# EAGLE library part ATSAMD2*G1*A-U (library maxorig)
ATSAMD2*E - 32bit low-power Cortex M0+ microcontroller (Special part for WLCSP package which is missing PB22 and PB23) This part is for the middle pin count pieces in the SAMD20 and SAMD21 series of low-power microcontrollers. The SAMD21 series adds USB and DMA to the SAMD20 series. Includes Atmel's configurable serial interfaces (SERCOMs) which can be configured to be a UART, I2C, LIN, or SPI. Technical specifications: VCC: 1.62-3.63V Core frequency up to 48MHz Program flash: 32/64/128/256 kb RAM: 4/8/16/32 kb SERCOMS: 6 GPIOs: 36 ADC channels: 14 ADC resolution: 12 bits DACs: 1
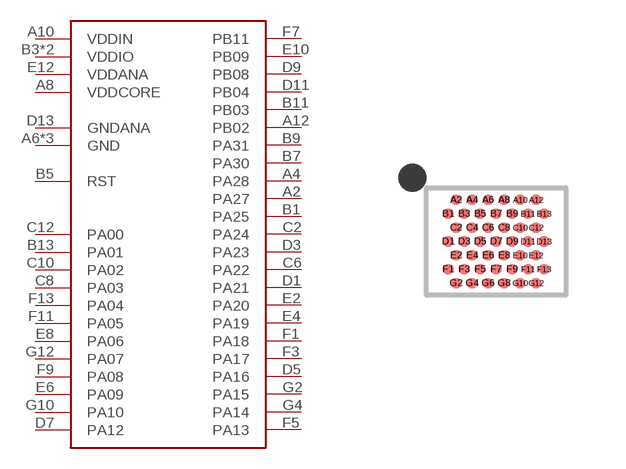
[diagram p29: symbol with the pads of WLCSP-45; footprint WLCSP-45]

Designator prefix -

## ATSAMD2G1A-U  [WLCSP-45]
A2  PA27
A4  PA28
A6  GND
A8  VDDCORE
A10  VDDIN
A12  PB02
B1  PA25
B3  VDDIO
B5  RST
B7  PA30
B9  PA31
B11  PB03
B13  PA01
C2  PA24
C4  GND
C6  PA22
C8  PA03
C10  PA02
C12  PA00
D1  PA21
D3  PA23
D5  PA16
D7  PA12
D9  PB08
D11  PB04
D13  GNDANA
E2  PA20
E4  PA19
E6  PA09
E8  PA06
E10  PB09
E12  VDDANA
F1  PA18
F3  PA17
F5  PA13
F7  PB11
F9  PA08
F11  PA05
F13  PA04
G2  PA15
G4  PA14
G6  GND
G8  VDDIO
G10  PA10
G12  PA07

## Footprint WLCSP-45 (pad centres in mm)
smd 0.26 x 0.26: A2 -1,1.04; A4 -0.6,1.04; A6 -0.2,1.04; A8 0.2,1.04; A10 0.6,1.04; A12 1,1.04; B1 -1.2,0.693; B3 -0.8,0.693; B5 -0.4,0.693; B7 0,0.693; B9 0.4,0.693; B11 0.8,0.693; B13 1.2,0.693; C2 -1,0.346; C4 -0.6,0.346; C6 -0.2,0.346; C8 0.2,0.346; C10 0.6,0.346; C12 1,0.346; D1 -1.2,0; D3 -0.8,0; D5 -0.4,0; D7 0,0; D9 0.4,0; D11 0.8,0; D13 1.2,0; E2 -1,-0.346; E4 -0.6,-0.346; E6 -0.2,-0.346; E8 0.2,-0.346; E10 0.6,-0.346; E12 1,-0.346; F1 -1.2,-0.693; F3 -0.8,-0.693; F5 -0.4,-0.693; F7 0,-0.693; F9 0.4,-0.693; F11 0.8,-0.693; F13 1.2,-0.693; G2 -1,-1.04; G4 -0.6,-1.04; G6 -0.2,-1.04; G8 0.2,-1.04; G10 0.6,-1.04; G12 1,-1.04